# EAGLE library part M24C16-RMN6TP (library M24C16-RMN6TP)
EEPROM Serial-I2C 64K-bit 8K x 8 2.5V/3.3V/5V 8-Pin SOIC T/R
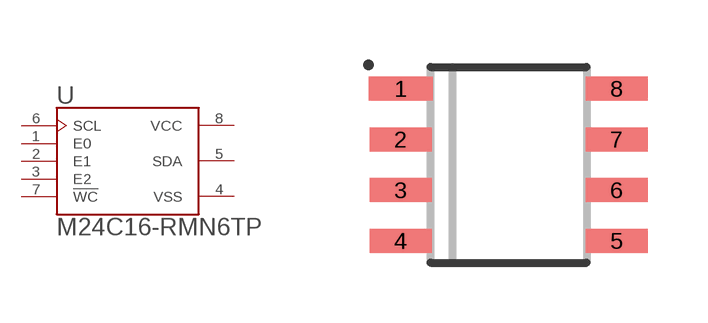
[diagram p0: symbol with the pads of SOIC127P600X175-8N; footprint SOIC127P600X175-8N]

Designator prefix U

## M24C16-RMN6TP (Description: EEPROM Memory IC 16Kb (2K x 8) I²C 400 kHz 900 ns 8-SOIC; Digi-Key_Part_Number: 497-8640-2-ND; MF: STMicroelectronics; MP: M24C16-RMN6TP; Package: SO-8 STMicroelectronics; Purchase-URL: https://pricing.snapeda.com/search/part/M24C16-RMN6TP/?ref=eda)  [SOIC127P600X175-8N]
1  E0  in
2  E1  in
3  E2  in
4  VSS  pwr
5  SDA
6  SCL  in
7  !WC  in
8  VCC  pwr

## Footprint SOIC127P600X175-8N (pad centres in mm)
smd 1.6 x 0.6: 1 -2.7,1.905
smd 1.55 x 0.6: 2 -2.7,0.635; 3 -2.7,-0.635; 4 -2.7,-1.905; 5 2.7,-1.905; 6 2.7,-0.635; 7 2.7,0.635; 8 2.7,1.905